# Altium integrated library mylib.IntLib: 1 symbol
Pins are listed as number, name and electrical type; pins without a type are passive.

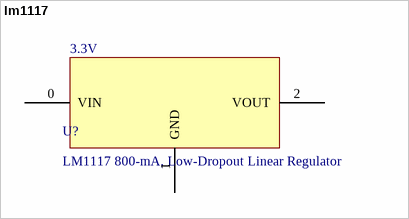
[diagram p0: symbol lm1117]

## lm1117
designator U?, comment LM1117 800-mA, Low-Dropout Linear Regulator  Voltage: 3.3V
The LM1117 is a low dropout voltage regulator with a / dropout of 1.2 V at 800 mA of load current. / The LM1117 is available in an adjustable version, / which can set the output voltage from 1.25 V to 13.8 V / with only two external resistors. In addition, the device / is available in five fixed voltages, 1.8 V, 2.5 V, 3.3 V, / and 5 V. / The LM1117 offers current limiting and thermal / shutdown. The circuit includes a Zener trimmed bandgap reference to assure output voltage accuracy to / within ±1%. / A minimum of 10-µF tantalum capacitor is required / at the output to improve the transient response and / stability.; Manufacturer: Texas Instruments (TI); Component Name: lm1117; Datasheet: https://www.ti.com/lit/ds/symlink/lm1117.pdf
footprint 4-pin SOT
pins: 0 VIN, 1 GND, 2 VOUT